# Altium footprint library DIOM6859X262N.PcbLib: 1 footprints
Each footprint in its own frame and in the unit in brackets; x right, y up, seen from the top. Pads: shape width x height; smd on the part's side, far side on the other; paste and mask are expansions set on the pad; w line width, h text height; cw(c..) or ccw(c..) is an arc to the next point about the centre after c.
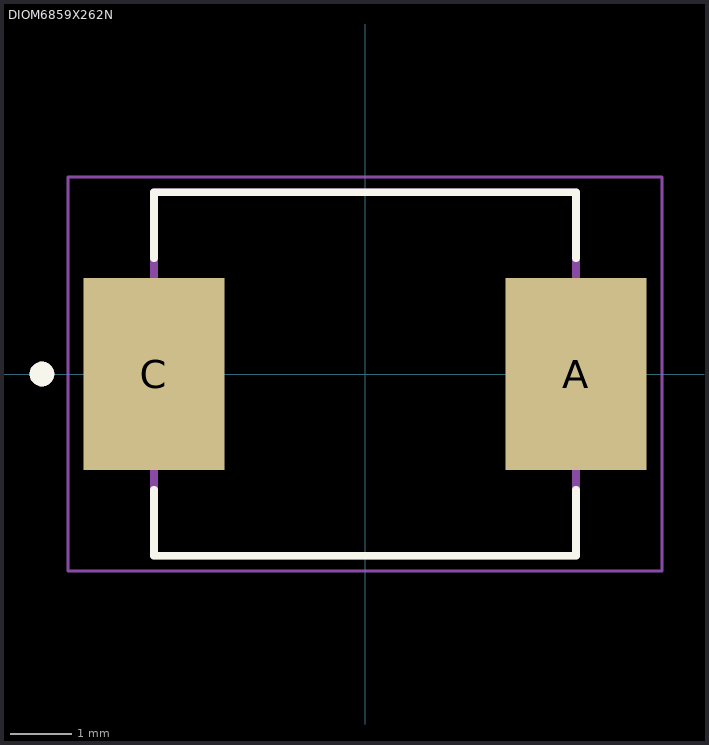
[diagram p0: the footprint, top view; thin cyan lines are the x and y axes]

## DIOM6859X262N [mm]
pads (2):
  rect 2.29x3.12 smd: A(3.43,0) C(-3.43,0)
Top Overlay:
  circle w0.2: c-5.25,0 r0.1
  lines w0.127: -3.427,-1.88 -3.427,-2.953 3.427,-2.953 3.427,-1.88 ; -3.427,1.88 -3.427,2.953 3.427,2.953 3.427,1.88
Mechanical 13:
  circle w0.2: c-5.25,0 r0.1
  lines w0.127: -3.427,-2.953 -3.427,2.953 3.427,2.953 3.427,-2.953 -3.427,-2.953
Mechanical 15:
  lines w0.05: -4.825,-3.203 -4.825,3.203 4.825,3.203 4.825,-3.203 -4.825,-3.203
3D body "step_temp.STEP": height 2.62, standoff 0, extent -3.97,-2.953 3.97,2.953